# Altium schematic symbol library TD5(3)01MCANFD.SchLib: 1 symbol
Pins are listed as number, name and electrical type; pins without a type are passive.

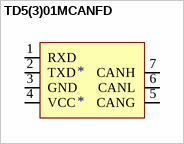
[diagram p0: symbol TD5(3)01MCANFD]

## TD5(3)01MCANFD
designator *
pins: 1 RXD, 2 TXD, 3 GND, 4 VCC, 5 CANG, 6 CANL, 7 CANH